# Altium schematic symbol library P-MOSFET.SCHLIB: 1 symbol
Pins are listed as number, name and electrical type; pins without a type are passive.

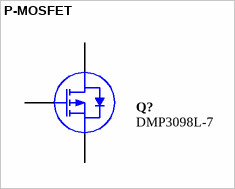
[diagram p0: symbol P-MOSFET]

## P-MOSFET
designator Q?, comment DMP3098L-7
DMP3098L, P-MOSFET, 120mOhm @ Vgs = -4.5V, Vds max. = -30V,  Qg = 8nC
pins: 1 G, 2 S, 3 D